# EAGLE library part DUAL_AUDIO_SOCKET (library F030NG)
Dual 3.5mm audio socket Switchcratf 35RAPC7JS
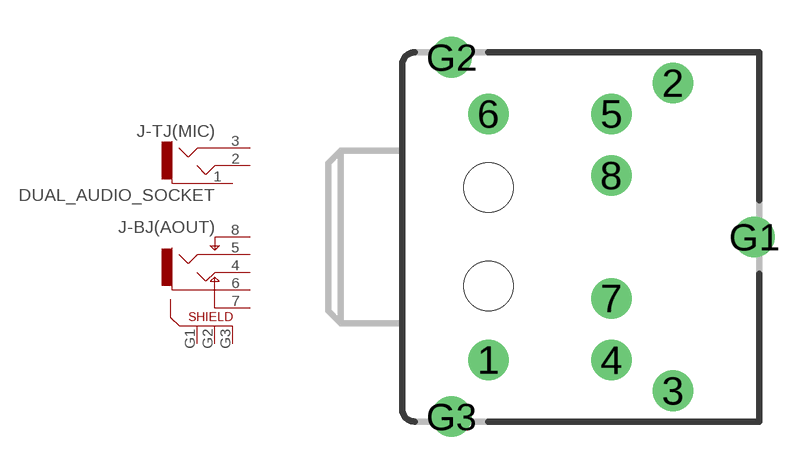
[diagram p46: symbol with the pads of SWITCHCRAFT_35RAPC7JS; footprint SWITCHCRAFT_35RAPC7JS]

Designator prefix J; gates -TJ(MIC)=STEREO-JACK3 -BJ(AOUT)=STEREO-JACK5

## DUAL_AUDIO_SOCKET  [SWITCHCRAFT_35RAPC7JS]
1  -TJ(MIC):S  pas
2  -TJ(MIC):L  pas
3  -TJ(MIC):R  pas
4  -BJ(AOUT):T  pas
5  -BJ(AOUT):R  pas
6  -BJ(AOUT):S  pas
7  -BJ(AOUT):TS
8  -BJ(AOUT):RS
G1  -BJ(AOUT):G1
G2  -BJ(AOUT):G2
G3  -BJ(AOUT):G3

## Footprint SWITCHCRAFT_35RAPC7JS (pad centres in mm)
drill 1.1: 1 0,-5; 2 7.5,6.25; 3 7.5,-6.25; 4 5,-5; 5 5,5; 6 0,5; 7 5,-2.5; 8 5,2.5; G1 10.8,0; G2 -1.5,7.3; G3 -1.5,-7.3
hole 2 at 0,2
hole 2 at 0,-2